# Altium footprint library ESP32.PcbLib: 1 footprints
Each footprint in its own frame and in the unit in brackets; x right, y up, seen from the top. Pads: shape width x height; smd on the part's side, far side on the other; paste and mask are expansions set on the pad; w line width, h text height; cw(c..) or ccw(c..) is an arc to the next point about the centre after c.
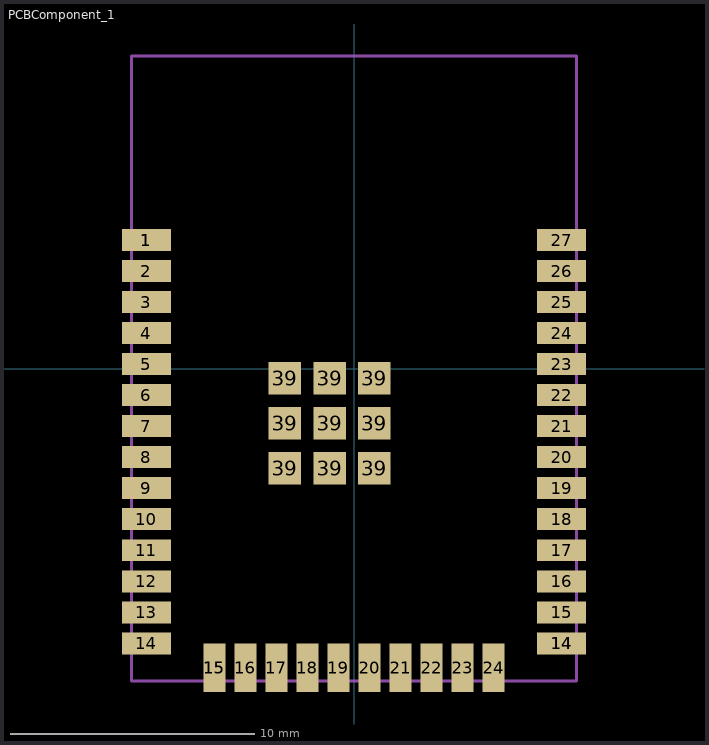
[diagram p0: the footprint, top view; thin cyan lines are the x and y axes]

## PCBComponent_1 [mm]
pads (50):
  rect 2x0.9 smd: 1(-8.5,5.26) 1(-8.5,5.26) 2(-8.5,3.99) 3(-8.5,2.72) 4(-8.5,1.45) 5(-8.5,0.18) 6(-8.5,-1.09) 7(-8.5,-2.36) 8(-8.5,-3.63) 9(-8.5,-4.9) 10(-8.5,-6.17) 11(-8.5,-7.44) 12(-8.5,-8.71) 13(-8.5,-9.98) 14(-8.5,-11.25) 14(8.5,-11.25) 14(8.5,-11.25) 15(8.5,-9.98) 16(8.5,-8.71) 17(8.5,-7.44) 18(8.5,-6.17) 19(8.5,-4.9) 20(8.5,-3.63) 21(8.5,-2.36) 22(8.5,-1.09) 23(8.5,0.18) 24(8.5,1.45) 25(8.5,2.72) 26(8.5,3.99) 27(8.5,5.26)
  rect 0.9x2 smd: 15(-5.715,-12.25) 15(-5.715,-12.25) 16(-4.445,-12.25) 17(-3.175,-12.25) 18(-1.905,-12.25) 19(-0.635,-12.25) 20(0.635,-12.25) 21(1.905,-12.25) 22(3.175,-12.25) 23(4.445,-12.25) 24(5.715,-12.25)
  rect 1.33x1.33 smd: 39(-2.835,-4.075) 39(-2.835,-2.24) 39(-2.835,-0.405) 39(-1,-4.075) 39(-1,-2.24) 39(-1,-0.405) 39(0.835,-4.075) 39(0.835,-2.24) 39(0.835,-0.405)
Top Assembly:
  lines w0.12: -9.1,-12.8 9.1,-12.8 9.1,12.8 -9.1,12.8 -9.1,-12.8
  text "'.Designator'" at -6.925,6.696 h1.2
3D body "User Library-esp-wroom-32.SLDPRT": height 3.01, standoff -0.02, extent -9.017,-12.77 9.053,12.77